# Altium schematic symbol library BC847A-G.SchLib: 1 symbol
Pins are listed as number, name and electrical type; pins without a type are passive.

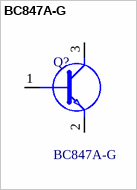
[diagram p0: symbol BC847A-G]

## BC847A-G
designator Q?
Bipolar Transistors - BJT 6V, 10uA Small Signal Transistor; Manufacturer_Name: Comchip Technology; Geometry.Height: 1.1mm; Mouser Part Number: 750-BC847A-G; Mouser Price/Stock: https://www.mouser.co.uk/ProductDetail/Comchip-Technology/BC847A-G?qs=XEIV%2Fho1H6dDZKpC3hIA5A%3D%3D; Manufacturer_Part_Number: BC847A-G; Datasheet Link: https://www.mouser.dk/datasheet/2/80/BC846W-G Thru850216. BC848W-G RevB-769660.pdf
footprint SOT65P230X110-3N
pins: 1 B, 2 E, 3 C